# Altium schematic symbol library charger_LT3652.SchLib: 18 symbols
Pins are listed as number, name and electrical type; pins without a type are passive.

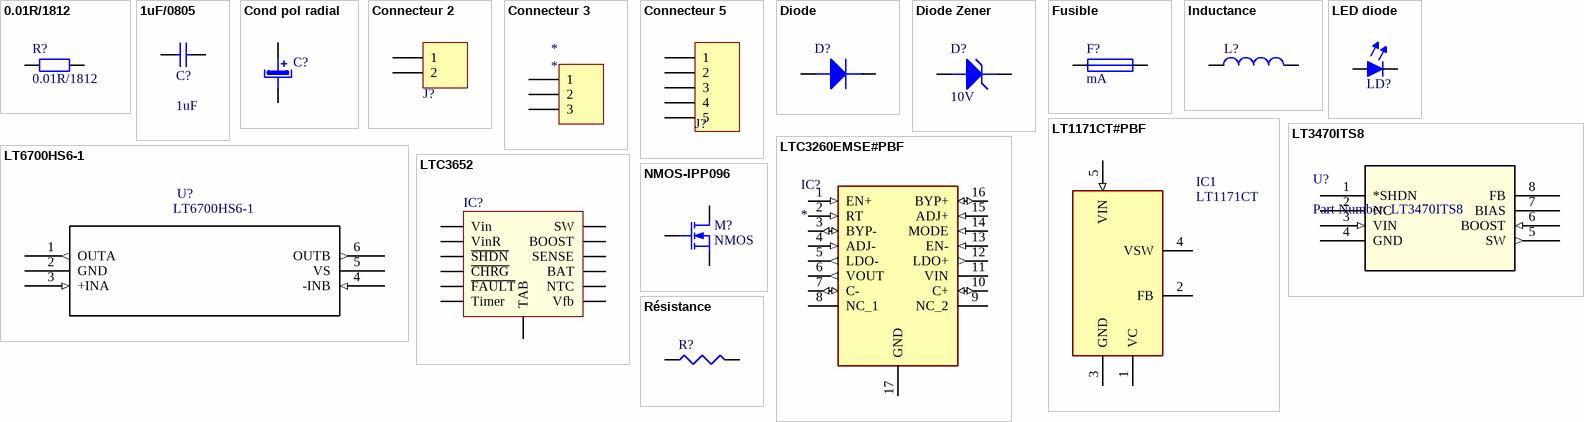
[diagram p0: symbols 0.01R/1812 to Résistance]

## 0.01R/1812
designator R?
Manufacturer: Vishay; Manufacturer Part Number: WSLT2010R0100FEA18; Resistance: 0.01ohm; Resistor Case Style: 2010 [5025 Metric]; Power Rating: 1W; Resistance Tolerance: ± 1%; Product Range: WSLT2010 Series; Resistor Element Type: Metal Strip; Temperature Coefficient: ± 75ppm/°C; Automotive Qualification Standard: AEC-Q200; SVHC: To Be Advised; Supplier 1: Farnell; Stock 1: 12782; Pricing 1: 10=0.985, 100=0.708, 500=0.572, 1000=0.522 (EUR); Packaging: Cut Tape; MSL: MSL 1 - Unlimited; ComponentLink1URL: http://www.farnell.com/datasheets/2049204.pdf; ComponentLink1Description: http://www.farnell.com/datasheets/2049204.pdf; ComponentLink2URL: http://www.mouser.com/ds/2/427/wslt2010-73010.pdf; ComponentLink2Description: http://www.mouser.com/ds/2/427/wslt2010-73010.pdf; Supplier Part Number 1: 2420772
footprint 1812 RES (1812 RES med)
pins: 1, 2

## 1uF/0805
designator C?, comment 1uF
Manufacturer: Murata; Manufacturer Part Number: GCM21BR7YA105KA55L; Capacitance: 1 µF; Dielectric: X7R; Tolerance (%): ±10 %; Rated Voltage: 35 V; Supplier 1: Farnell; Stock 1: 3630; Pricing 1: 5=0.391, 50=0.21, 250=0.162, 500=0.111 (EUR); Case Size/Dimension: 0805; ComponentLink1URL: https://datasheet.ciiva.com/11616/product-11616620.pdf; ComponentLink1Description: https://datasheet.ciiva.com/11616/product-11616620.pdf; ComponentLink2URL: https://datasheet.ciiva.com/138/s0717e-138752.pdf; ComponentLink2Description: https://datasheet.ciiva.com/138/s0717e-138752.pdf; ComponentLink3URL: https://datasheet.ciiva.com/138/s0717e-138753.pdf; ComponentLink3Description: https://datasheet.ciiva.com/138/s0717e-138753.pdf; ComponentLink4URL: https://datasheet.ciiva.com/18183/getdatasheetpartid-251151-18183719.pdf; ComponentLink4Description: https://datasheet.ciiva.com/18183/getdatasheetpartid-251151-18183719.pdf; ComponentLink5URL: https://datasheet.ciiva.com/138/s0717e-138751.pdf; ComponentLink5Description: https://datasheet.ciiva.com/138/s0717e-138751.pdf; Supplier Part Number 1: 2494199
footprint 0805 CAP (0805 cap)
pins: 1, 2

## Cond pol radial
designator C?
Condensateur polatisé; Type: Condensateur polarisé debout; Designer: ECAM 2004
simulation model Model Name (Model Description)
footprint CAPPR1.5-4x5 (Capacitor, Electrolytic, Radial; Body 4 x 5 mm (Dia.xH typ); Pin Spacing 1.5 mm (typ))
footprint CAPPR7.5-16x35 (Capacitor, Electrolytic, Radial; Body 16 x 35 mm (Dia.xH typ); Pin Spacing 7.5 mm (typ))
footprint CAPP-8x3 (Capacitor, Electrolytic, Radial; Body 12 x 25 mm (Dia.xH typ); Pin Spacing 5 mm (typ))
pins: 1 +, 2 -
2 alternate drawings of the same symbol

## Connecteur 2
designator J?
Connecteur; Designer: ECAM 2005; Type: Connecteur à vis
footprint CONVIS-2 (Connecteur à vis 2 contacts Pitch 5.08)
footprint Terminal block - 2 ways
footprint Jack_connector
pins: 1, 2

## Connecteur 3
designator *
footprint Connector 3
pins: 1, 2, 3

## Connecteur 5
designator J?
Connecteur; Designer: ECAM 2004
footprint Connector 5
pins: 1, 2, 3, 4, 5

## Diode
designator D?
Diode; Type: Diode standard; Designer: ECAM 2003
simulation model DIODE (Diode)
footprint DIO7.1-3.9x1.9 (Diode, Axial; Body 3.8 x 1.9 mm (LxDia. max), Lead Dia. 0.53 mm (max))
footprint DIO7.8-4.6x2 (Diode, Axial; Body 4.6 x 1.9 mm (LxDia. max), Lead Dia. 0.53 mm (max))
footprint DIO10.2-7x2.7 (Diode, Axial; Body 7 x 2.7 mm (LxDia. max), Lead Dia. 0.53 mm (max))
footprint DIO10.46-5.3x2.8 (Diode, Axial; Body 5.2 x 2.7 mm (LxDia. max), Lead Dia. 0.86 mm (max))
footprint DIO18.84-9.6x5.6 (Diode, Axial; Body 9.5 x 5.6 mm (LxDia. max), Lead Dia. 1.32 mm (max))
footprint DIODE-0.4 (Tunnel Diode - Dependent Source Model; 2 Leads)
footprint DIODE-0.7 (Zener Diode; 2 Leads)
footprint SMB (SMB diode SS14)
pins: 1 A, 2 K

## Diode Zener
designator D?  Voltage: 10V
Diode Zéner; Type: Diode Zéner 10 V; Designer: ECAM 2005
simulation model ZENER (Diode)
signal-integrity model D Zener
footprint DIODE-0.4 (Tunnel Diode - Dependent Source Model; 2 Leads)
pins: 1 A, 2 K

## Fusible
designator F?  value mA
Fusible; Designer: ECAM 2004; Type: Fusible
footprint Fuse_holder
pins: 1 F1, 2 F2

## Inductance
designator L?
Inductance; Designer: ECAM 2003
simulation model INDUCTOR (Inductor)
signal-integrity model Inductor
footprint INDPM7070X580N
footprint WE-PD_1260$2F$1245$2F$1280$2F$121054
pins: 1, 2

## LED diode
designator LD?  (value not drawn)
LED; Manufacturer: Multicomp; Manufacturer Part Number: 703-0112; LED Colour: Red; LED Mounting: SMD; Forward Current If: 20mA; Forward Voltage: 1.8V; Wavelength Typ: 643nm; Luminous Intensity: 15mcd; Viewing Angle: 140°; Lens Shape: Rectangular; Supplier 1: Farnell; Stock 1: 627; Pricing 1: 5=0.163, 25=0.139, 100=0.108, 250=0.0887, 500=0.0813, 1000=0.075 (EUR); Bulb Size: -; Packaging: Each; Product Range: -; Automotive Qualification Standard: -; ComponentLink1URL: https://datasheet.ciiva.com/1244/1758066-1244070.pdf; ComponentLink1Description: https://datasheet.ciiva.com/1244/1758066-1244070.pdf; ComponentLink2URL: https://datasheet.ciiva.com/23621/1626779-23621468.pdf; ComponentLink2Description: https://datasheet.ciiva.com/23621/1626779-23621468.pdf; Supplier Part Number 1: 2112124
footprint LED_0603 (LED diode 0603)
pins: 1 A1, 2 K

## LT1171CT#PBF
designator IC1, comment LT1171CT
Integrated Circuit; Manufacturer_Name: Linear Technology; Manufacturer_Part_Number: LT1171CT#PBF; Datasheet Link: http://docs-emea.rs-online.com/webdocs/13ec/0900766b813ec9fd.pdf; Height: 4.572mm; Mouser Part Number: 584-LT1171CT#PBF; Mouser Price/Stock: https://www.mouser.com/Search/Refine.aspx?Keyword=584-LT1171CT%23PBF; RS Part Number: 5455001; RS Price/Stock: https://uk.rs-online.com/web/p/products/5455001
footprint TO170P457X1022X2306-5P
pins: 1 VC, 2 FB, 3 GND (power), 4 VSW, 5 VIN (in)

## LT3470ITS8
designator U?, comment Part Number: LT3470ITS8
No Description Available; Vendor: Linear Technology; Manufacturer_Part_Number: LT3470ITS8; Copyright: Copyright (C) 2018 Accelerated Designs. All rights reserved; RefDes: RefDes; Type: DEV; Value: Value
footprint TSOT-23_TS8
pins: 1 *SHDN, 2 NC, 3 VIN (in), 4 GND (power), 5 SW (out), 6 BOOST (in), 7 BIAS, 8 FB

## LT6700HS6-1
designator U?
Analog Comparators LT6700 - Micropower, Low Voltage, Dual Comparator with 400mV Reference; MF: Linear Technology; MP: LT6700HS6-1; Package: None; Price: None; Availability: Unavailable; SnapEDA_Link: https://www.snapeda.com/parts/LT6700HS6-1/Analog%20Devices/view-part/?ref=snap; Value: *
footprint *TSOT-23_S6
pins: 1 OUTA (out), 2 GND (power), 3 +INA (in), 4 -INB (in), 5 VS (power), 6 OUTB (out)

## LTC3260EMSE#PBF
designator IC?
Integrated Circuit; Manufacturer_Name: Linear Technology; Manufacturer_Part_Number: LTC3260EMSE#PBF; Datasheet Link: http://cds.linear.com/docs/en/datasheet/3260fa.pdf; Height: 1.1mm; Mouser Part Number: 584-LTC3260EMSE#PBF; Mouser Price/Stock: https://www.mouser.com/Search/Refine.aspx?Keyword=584-LTC3260EMSE%23PBF; RS Part Number: 8516768P; RS Price/Stock: http://uk.rs-online.com/web/p/products/8516768P
footprint SOP50P490X110-17N
footprint *MSOP-16_MSE
pins: 1 EN+ (in), 2 RT (in), 3 BYP- (io), 4 ADJ- (in), 5 LDO- (out), 6 VOUT (out), 7 C- (io), 8 NC_1, 9 NC_2, 10 C+ (io), 11 VIN (power), 12 LDO+ (out), 13 EN- (in), 14 MODE (in), 15 ADJ+ (in), 16 BYP+ (io), 17 GND (power)

## LTC3652
designator IC?  (value not drawn)
Manufacturer: Analog Devices / Linear Technology; Manufacturer Part Number: LT3652EMSE#PBF; Dynamic Catalog: Charge Management, Specialized; Other Related Documents: Power-Tracking Batt-Charger Article / Designing a Solar Cell Battery Charger; Product Training Modules: LT3652 Multi-Chemistry Battery Charger for Solar Power; Featured Product: Energy Harvesting Power Products; Reference Design Library: DC1568A(#1):  2 Cell, 8.2V, 2A Max, Solar / DC1568A(#2):  2 Cell, 8.2V, 2A Max, Solar; Function: Charge Management, Solar; Battery Chemistry: Lead Acid, LiFePO4, Li-Ion, Li-Pol, NiCd, NiMH; Voltage - Supply: 4.95 V ~ 32 V; For Use With: DC1568A-ND / - BOARD BATTERY CHARGER SOLAR PWR / DC1688A-ND / - EVAL BOARD BATT CHARGER LT3652; Other Names: LT3652EMSEPBF; Value: LTC3652; Supplier 1: Farnell; Stock 1: 0; Standard Package: 37; Category: Integrated Circuits (ICs); Family: PMIC - Battery Management; Series: -; Packaging: Tube; Operating Temperature: -40°C ~ 125°C; Mounting Type: Surface Mount; Package / Case: 12-TSSOP (0.118", 3.00mm Width) Exposed Pad; Supplier Device Package: 12-MSOP-EP; Online Catalog: Charge Management, Specialized; ComponentLink1URL: https://datasheet.ciiva.com/15114/getdatasheetpartid-367678-15114671.pdf; ComponentLink1Description: https://datasheet.ciiva.com/15114/getdatasheetpartid-367678-15114671.pdf; ComponentLink2URL: https://datasheet.ciiva.com/1932/28522-1932092.pdf; ComponentLink2Description: https://datasheet.ciiva.com/1932/28522-1932092.pdf; ComponentLink3URL: https://datasheet.ciiva.com/1139/1692510-1139705.pdf; ComponentLink3Description: https://datasheet.ciiva.com/1139/1692510-1139705.pdf; Supplier Part Number 1: 1839126
footprint MSOP12 - EP (MSOP, 12-Leads, Body 4,00x3,00mm, Pitch 0,65mm, Thermal Pad 2,90x1,70mm, IPC Medium Density)
pins: 1 Vin, 2 VinR, 3 ~{SHDN}, 4 ~{CHRG}, 5 ~{FAULT}, 6 Timer, 7 Vfb, 8 NTC, 9 BAT, 10 SENSE, 11 BOOST, 12 SW, 13 TAB

## NMOS-IPP096
designator M?  value NMOS
MOSFET; Designer: ECAM 2002; Type: Mosfet canal N
footprint TO-39
simulation model NMOS (MOSFET-N)
footprint TO-18
footprint TO-220 H (TO-220 horizontal)
footprint TO-220 V (TO-220 Vertical)
pins: 1 G, 2 D, 3 S
1 alternate drawing of the same symbol

## Résistance
designator R?
Résistance standard; Designer: ECAM 2005; Type: Résistance standard
simulation model Model Name (Model Description)
footprint AXIAL-0.3 (Resistor; 2 Leads)
footprint AXIAL-0.4 (Resistor; 2 Leads)
footprint AXIAL-0.5 (Semiconductor Resistor; 2 Leads)
footprint AXIAL-1.0 (Adjustable Magnetic-Core Inductor; 2 Leads)
footprint 1812 RES (1812 RES med small values)
footprint 0603 RES (RES0603 medium)
footprint 1206 RES (RES1206 med)
pins: 1, 2
3 alternate drawings of the same symbol